# Altium footprint library 2mm 10pin male header.PcbLib: 1 footprints
Each footprint in its own frame and in the unit in brackets; x right, y up, seen from the top. Pads: shape width x height; smd on the part's side, far side on the other; paste and mask are expansions set on the pad; w line width, h text height; cw(c..) or ccw(c..) is an arc to the next point about the centre after c.
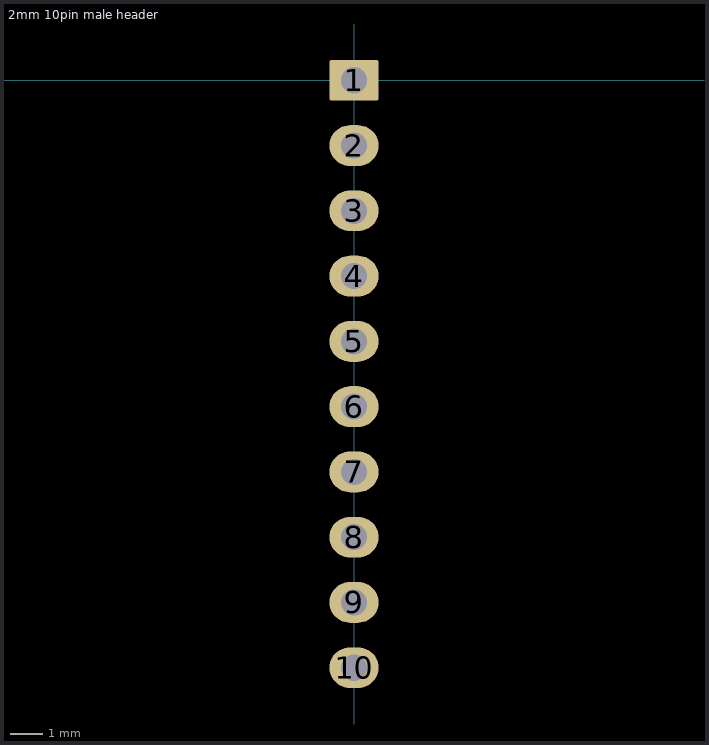
[diagram p0: the footprint, top view; thin cyan lines are the x and y axes]

## 2mm 10pin male header [mm]
pads (10):
  rrect10% 1.5x1.25 hole 0.8 paste+0: 1(0,0)
  oval 1.5x1.25 hole 0.8 paste+0: 2(0,-2) 3(0,-4) 4(0,-6) 5(0,-8) 6(0,-10) 7(0,-12) 8(0,-14) 9(0,-16) 10(0,-18)
3D body "2mm male header.SLDPRT": height 6, standoff -1.67, extent -1,-19 1,1